# Altium footprint library PCB - RESISTOR - CHIP - RES 0805_2012.PCBLIB: 1 footprints
Each footprint in its own frame and in the unit in brackets; x right, y up, seen from the top. Pads: shape width x height; smd on the part's side, far side on the other; paste and mask are expansions set on the pad; w line width, h text height; cw(c..) or ccw(c..) is an arc to the next point about the centre after c.
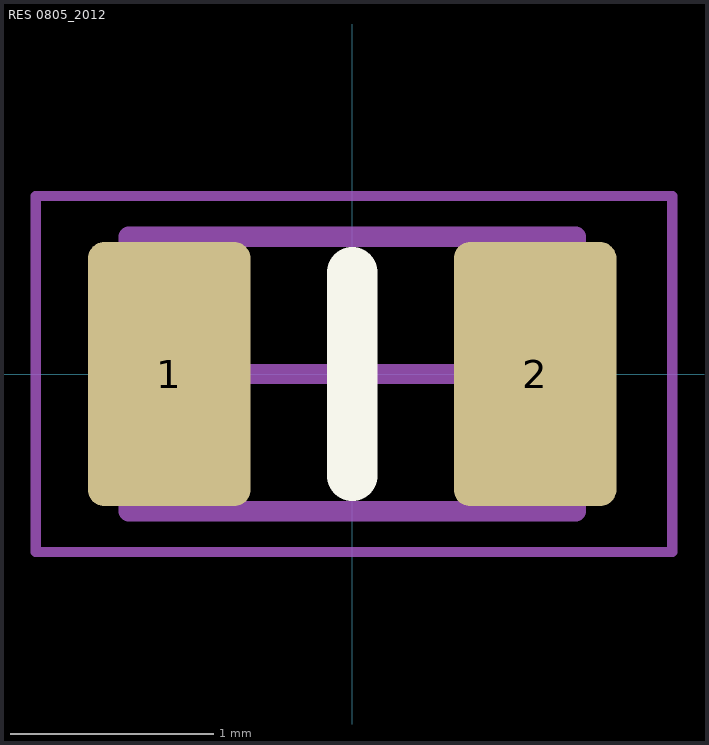
[diagram p0: the footprint, top view; thin cyan lines are the x and y axes]

## RES 0805_2012 [mm] "Chip Resistor, 2-Leads, Body 2.00x1.25mm, IPC Medium Density"
height 0.7
pads (2):
  rrect20% 0.8x1.3 smd: 1(-0.9,0) 2(0.9,0)
Top Overlay:
  lines w0.25: 0,-0.5 0,0.5
Top Courtyard:
  lines w0.05: -1.556,-0.876 1.574,-0.876 1.574,0.876 -1.556,0.876 -1.556,-0.876
  lines w0.1: -0.5,0 0.5,0 ; 0,-0.5 0,0.5
Top Assembly:
  lines w0.1: -1.1,-0.675 -1.1,0.675 1.1,0.675 1.1,-0.675 -1.1,-0.675
  text ".Designator" at -2.25,-0.226 h1
3D body "0805 resistor.STEP": height 0.6, standoff 0, extent -1,-0.625 1,0.625